# Altium footprint library PROJECT_MIND_FINAL.PcbLib: 4 footprints
Each footprint in its own frame and in the unit in brackets; x right, y up, seen from the top. Pads: shape width x height; smd on the part's side, far side on the other; paste and mask are expansions set on the pad; w line width, h text height; cw(c..) or ccw(c..) is an arc to the next point about the centre after c.
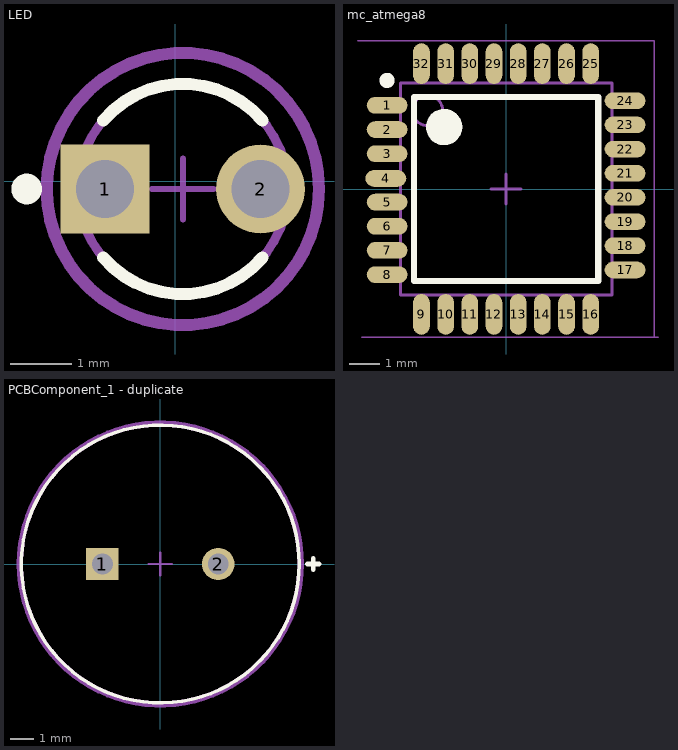
[diagram p0: the footprints below, top view; thin cyan lines are the x and y axes]

## LED [mm]
pads (2):
  rect 1.45x1.45 hole 0.95 paste-2539.97 mask+0: 1(-1.143,-0.127)
  round 1.45 hole 0.95 paste-2539.97 mask+0: 2(1.397,-0.127)
Top Overlay:
  circle w0.25: c-2.423,-0.127 r0.125
  lines w0.2: -1.173,-1.247 ccw(c0.127,-0.128) 1.427,-1.247 ; -1.173,0.993 cw(c0.127,-0.126) 1.427,0.993
Top 3D Body:
  circle w0.15: c0.127,-0.127 r1.715
Board:
  lines w0.2: -2.096,-0.127 cw(c0.127,-0.127) 2.35,-0.127 cw(c0.127,-0.127) -2.096,-0.127
Top Assembly:
  text ".Designator" at 0.127,0.061 h1
Top Component Center:
  lines w0.1: -0.373,-0.127 0.627,-0.127 ; 0.127,-0.627 0.127,0.373
3D body "Diode_Broadcom_HLMP-1719_eec.STEP": height 0.25, standoff 0, extent -2.096,-2.35 2.35,2.096

## mc_atmega8 [mm]
pads (32):
  oval 1.35x0.55 smd: 1(-3.937,2.768) 2(-3.937,1.968) 3(-3.937,1.168) 4(-3.978,0.349) 5(-3.937,-0.432) 6(-3.937,-1.232) 7(-3.937,-2.032) 8(-3.937,-2.832) 17(3.937,-2.679) 18(3.937,-1.879) 19(3.937,-1.079) 20(3.937,-0.279) 21(3.937,0.521) 22(3.937,1.321) 23(3.937,2.121) 24(3.937,2.921)
  oval 0.55x1.35 smd: 9(-2.8,-4.15) 10(-2,-4.15) 11(-1.2,-4.15) 12(-0.4,-4.15) 13(0.4,-4.15) 14(1.2,-4.15) 15(2,-4.15) 16(2.8,-4.15) 25(2.8,4.15) 26(2,4.15) 27(1.2,4.15) 28(0.4,4.15) 29(-0.4,4.15) 30(-1.2,4.15) 31(-2,4.15) 32(-2.8,4.15)
Top Overlay:
  circle w0.25: c-3.937,3.593 r0.125
  circle w0.6: c-2.05,2.05 r0.3
  lines w0.2: -3.05,-3.05 -3.05,3.05 3.05,3.05 3.05,-3.05 -3.05,-3.05
Mechanical 13:
  circle w0.1: c-2.6,2.6 r0.5
  lines w0.1: -3.5,-3.5 -3.5,3.5 3.5,3.5 3.5,-3.5 -3.5,-3.5
Mechanical 15:
  lines w0.05: -4.9,4.9 4.9,4.9 4.9,-4.9 ; -4.773,-4.9 5.027,-4.9
  lines w0.1: -0.5,0 0.5,0 ; 0,-0.5 0,0.5
3D body: height 1.2, standoff 0, extent -3.5,-3.5 3.5,3.5

## PCBComponent_1 - duplicate [mm]
pads (2):
  rect 1.4x1.4 hole 0.9 paste-2539.97 mask+0: 1(-2.5,0)
  round 1.4 hole 0.9 paste-2539.97 mask+0: 2(2.5,0)
Top Overlay:
  circle w0.15: c0,0 r6
  lines w0.2: 6.35,0 6.85,0 ; 6.6,-0.25 6.6,0.25
Top 3D Body:
  circle w0.15: c0,0 r6
Board:
  lines w0.2: -6.1,0 ccw(c0,0) 6.1,0 ccw(c0,0) -6.1,0
Top Assembly:
  text ".Designator" at 0,0.188 h1
Top Component Center:
  lines w0.1: -0.5,0 0.5,0 ; 0,-0.5 0,0.5
3D body "Speak_TDK_SD1209T5-A1_eec.STEP": height 0.25, standoff 0, extent -6.1,-6.1 6.1,6.1

## PCBComponent_1 - duplicate2 [mm]